# Altium schematic symbol library 集成块.SchLib: 33 symbols
Pins are listed as number, name and electrical type; pins without a type are passive.

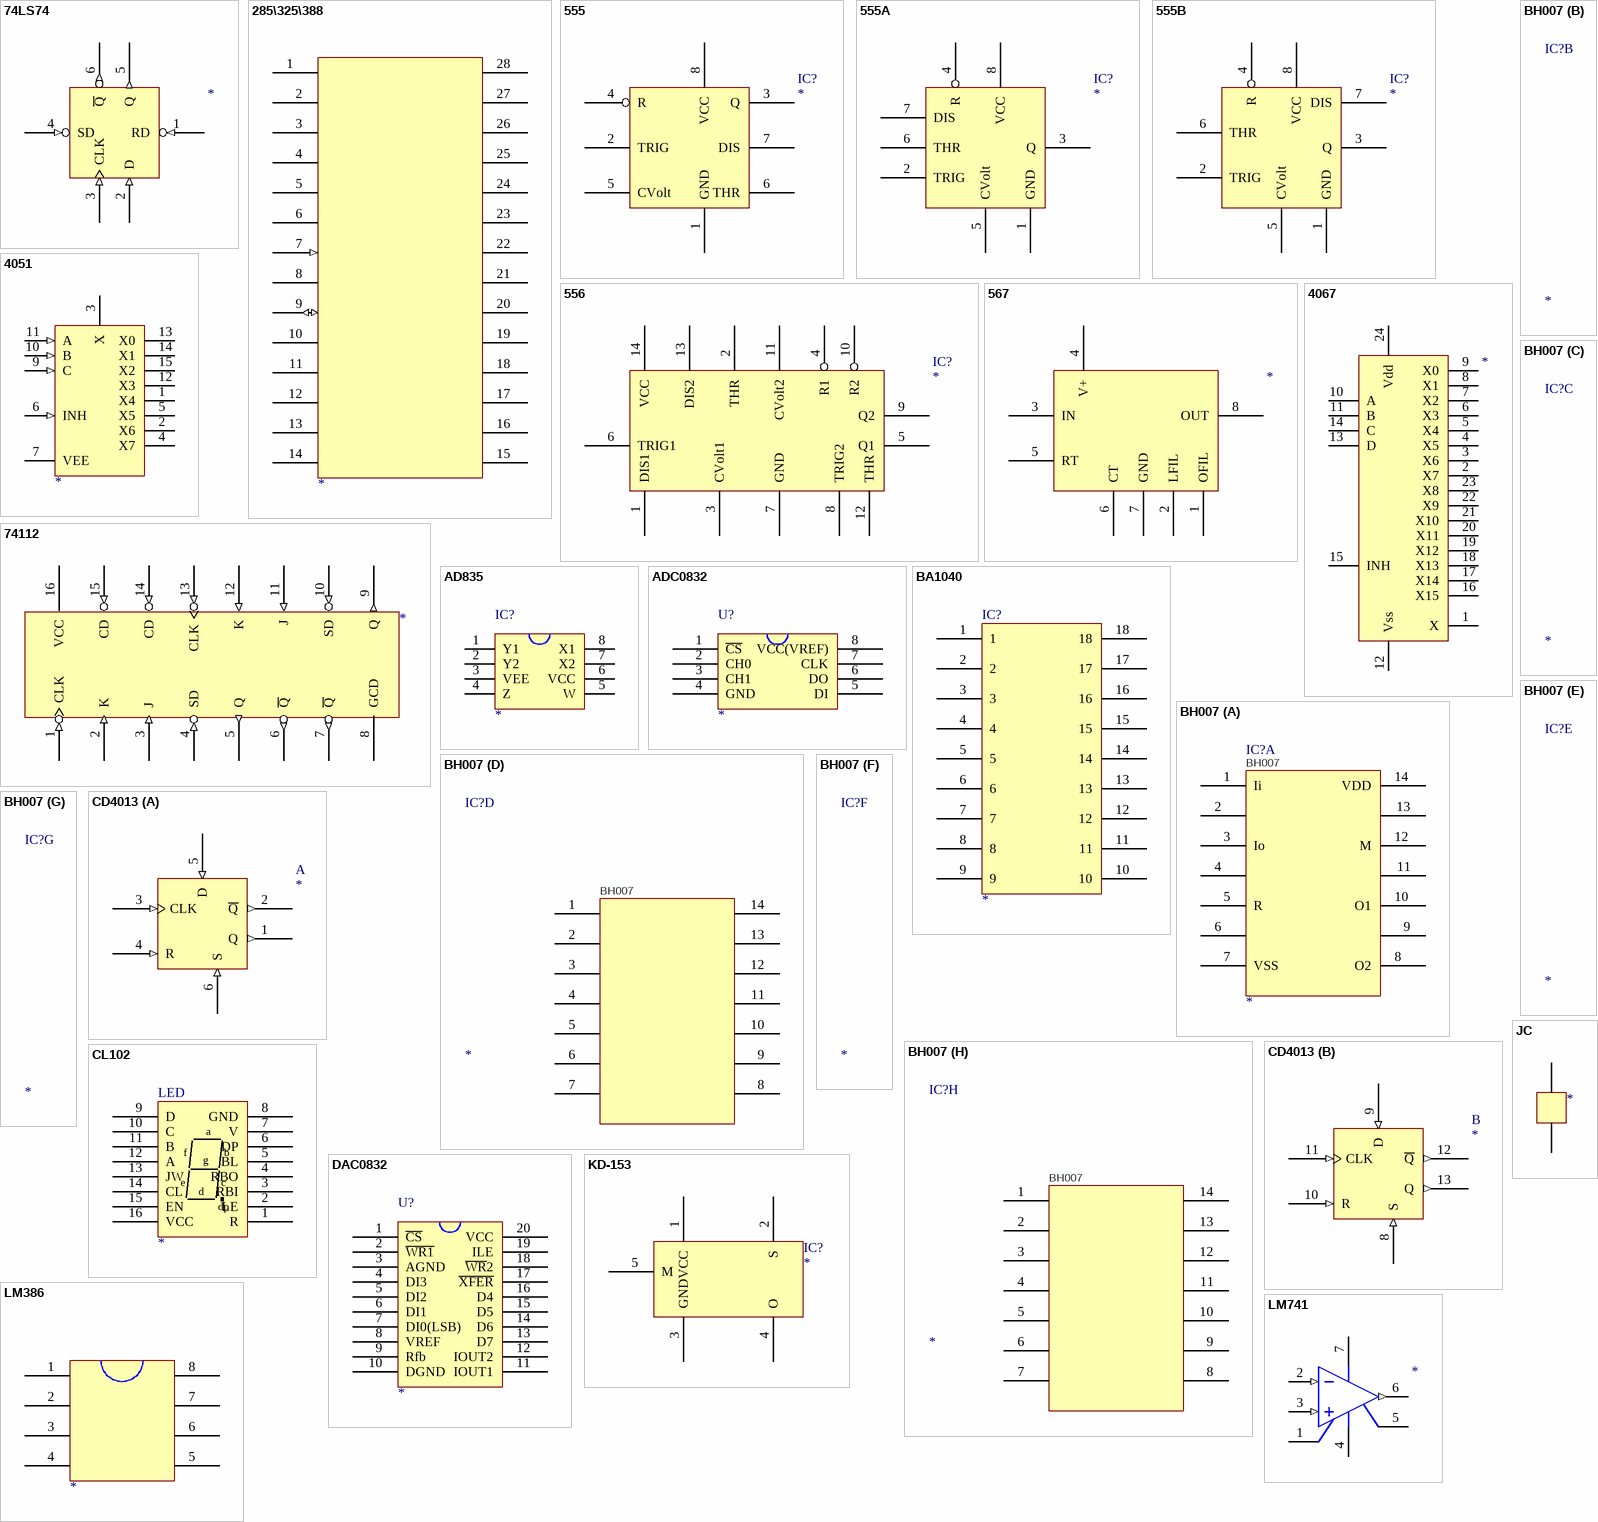
[diagram p0: symbols 74LS74 to LM741]

## 74LS74
designator ?
pins: 1 RD (in), 2 D (in), 3 CLK (in), 4 SD (in), 5 Q (out), 6 ~{Q} (out), 7 GND (power) hidden to GND, 14 VCC (power) hidden to VCC

## 285\325\388
designator ?
pins: 1, 2, 3, 4, 5, 6, 7 (in), 8, 9 (io), 10, 11, 12, 13, 14, 15, 16, 17, 18, 19, 20, 21, 22, 23, 24, 25, 26, 27, 28

## 555
designator IC?
footprint DIP-8
pins: 1 GND, 2 TRIG, 3 Q, 4 R, 5 CVolt, 6 THR, 7 DIS, 8 VCC

## 555A
designator IC?
footprint DIP-8
pins: 1 GND, 2 TRIG, 3 Q, 4 R, 5 CVolt, 6 THR, 7 DIS, 8 VCC

## 555B
designator IC?
footprint DIP-8
pins: 1 GND, 2 TRIG, 3 Q, 4 R, 5 CVolt, 6 THR, 7 DIS, 8 VCC

## 556
designator IC?
footprint DIP-14
pins: 1 DIS1, 2 THR, 3 CVolt1, 4 R1, 5 Q1, 6 TRIG1, 7 GND, 8 TRIG2, 9 Q2, 10 R2, 11 CVolt2, 12 THR, 13 DIS2, 14 VCC

## 567
designator ?
pins: 1 OFIL, 2 LFIL, 3 IN, 4 V+, 5 RT, 6 CT, 7 GND, 8 OUT

## 4051
designator ?
pins: 1 X4, 2 X6, 3 X, 4 X7, 5 X5, 6 INH (in), 7 VEE, 9 C (in), 10 B (in), 11 A (in), 12 X3, 13 X0, 14 X1, 15 X2

## 4067
designator ?
pins: 1 X, 2 X7, 3 X6, 4 X5, 5 X4, 6 X3, 7 X2, 8 X1, 9 X0, 10 A, 11 B, 12 Vss, 13 D, 14 C, 15 INH, 16 X15, 17 X14, 18 X13, 19 X12, 20 X11, 21 X10, 22 X9, 23 X8, 24 Vdd

## 74112
designator ?
pins: 1 CLK (in), 2 K (in), 3 J (in), 4 SD (in), 5 Q (out), 6 ~{Q} (out), 7 ~{Q} (out), 8 GND (power) hidden to GND, 8 GND (power) hidden to GND, 8 GCD, 9 Q (out), 10 SD (in), 11 J (in), 12 K (in), 13 CLK (in), 14 CD (in), 15 CD (in), 16 VCC (power) hidden to VCC, 16 VCC (power) hidden to VCC, 16 VCC

## AD835
designator IC?
footprint DIP-8
pins: 1 Y1, 2 Y2, 3 VEE, 4 Z, 5 W, 6 VCC, 7 X2, 8 X1

## ADC0832
designator U?
footprint DIP-8
footprint DIP8
pins: 1 ~{CS}, 2 CH0, 3 CH1, 4 GND, 5 DI, 6 DO, 7 CLK, 8 VCC(VREF)

## BA1040
designator IC?
footprint DIP-18
pins: 1, 2, 3, 4, 5, 6, 7, 8, 9, 10, 11, 12, 13, 14, 15, 16, 17, 18

## BH007
designator IC?
footprint DIP-14
part A pins: 1 Ii, 2, 3 Io, 4, 5 R, 6, 7 VSS, 8 O2, 9, 10 O1, 11, 12 M, 13, 14 VDD
part D pins: 1, 2, 3, 4, 5, 6, 7, 8, 9, 10, 11, 12, 13, 14
part H pins: 1, 2, 3, 4, 5, 6, 7, 8, 9, 10, 11, 12, 13, 14

## CD4013
designator ?
part A pins: 1 Q (out), 2 ~{Q} (out), 3 CLK (in), 4 R (in), 5 D (in), 6 S (in), 7 GND (power) hidden to GND, 14 VCC (power) hidden to VCC
part B pins: 8 S (in), 9 D (in), 10 R (in), 11 CLK (in), 12 ~{Q} (out), 13 Q (out)

## CL102
designator LED
footprint DIP-16
pins: 1 R, 2 LE, 3 RBI, 4 RBO, 5 BL, 6 DP, 7 V, 8 GND, 9 D, 10 C, 11 B, 12 A, 13 JW, 14 CL, 15 EN, 16 VCC
text: a; f; b; g; e; c; d; dp

## DAC0832
designator U?
footprint DIP-20
footprint DIP20
pins: 1 ~{CS}, 2 ~{WR1}, 3 AGND, 4 DI3, 5 DI2, 6 DI1, 7 DI0(LSB), 8 VREF, 9 Rfb, 10 DGND, 11 IOUT1, 12 IOUT2, 13 D7, 14 D6, 15 D5, 16 D4, 17 ~{XFER}, 18 ~{WR}2, 19 ILE, 20 VCC

## JC
designator ?
pins: 1, 2

## KD-153
designator IC?
footprint DIP-6
pins: 1 VCC, 2 S, 3 GND, 4 O, 5 M

## LM386
designator ?
footprint DIP-8
pins: 1, 2, 3, 4, 5, 6, 7, 8

## LM741
designator ?
footprint DIP-8
pins: 1 OS NULL-, 2 IN- (in), 3 IN+ (in), 4 VCC - (power), 5 OS NULL+, 6 OUT (out), 7 VCC+ (power)

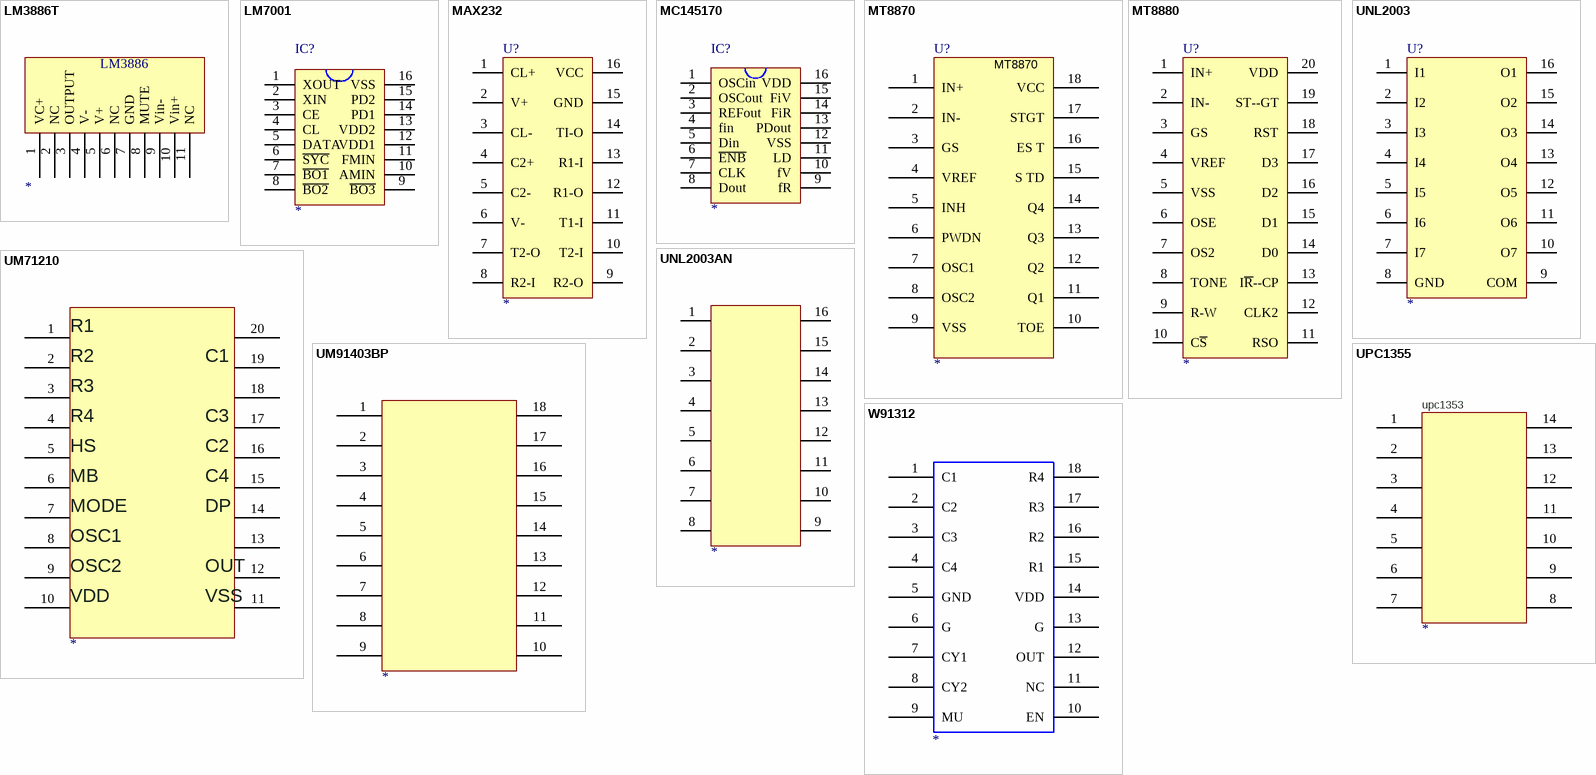
[diagram p1: symbols LM3886T to W91312]

## LM3886T
designator ?
pins: 1 VC+, 2 NC, 3 OUTPUT, 4 V-, 5 V+, 6 NC, 7 GND, 8 MUTE, 9 Vin-, 10 Vin+, 11 NC
text: LM3886

## LM7001
designator IC?
footprint DIP-16
pins: 1 XOUT, 2 XIN, 3 CE, 4 CL, 5 DATA, 6 ~{SYC}, 7 ~{BO1}, 8 ~{BO2}, 9 ~{BO3}, 10 AMIN, 11 FMIN, 12 VDD1, 13 VDD2, 14 PD1, 15 PD2, 16 VSS

## MAX232
designator U?
footprint DIP-16
pins: 1 CL+, 2 V+, 3 CL-, 4 C2+, 5 C2-, 6 V-, 7 T2-O, 8 R2-I, 9 R2-O, 10 T2-I, 11 T1-I, 12 R1-O, 13 R1-I, 14 TI-O, 15 GND, 16 VCC

## MC145170
designator IC?
footprint DIP-16
pins: 1 OSCin, 2 OSCout, 3 REFout, 4 fin, 5 Din, 6 ~{ENB}, 7 CLK, 8 Dout, 9 fR, 10 fV, 11 LD, 12 VSS, 13 PDout, 14 FiR, 15 FiV, 16 VDD

## MT8870
designator U?
footprint DIP18
pins: 1 IN+, 2 IN-, 3 GS, 4 VREF, 5 INH, 6 PWDN, 7 OSC1, 8 OSC2, 9 VSS, 10 TOE, 11 Q1, 12 Q2, 13 Q3, 14 Q4, 15 S TD, 16 ES T, 17 STGT, 18 VCC

## MT8880
designator U?
footprint DIP20
pins: 1 IN+, 2 IN-, 3 GS, 4 VREF, 5 VSS, 6 OSE, 7 OS2, 8 TONE, 9 R-W, 10 C~{S}, 11 RSO, 12 CLK2, 13 I~{R}--CP, 14 D0, 15 D1, 16 D2, 17 D3, 18 RST, 19 ST--GT, 20 VDD

## UM71210
designator ?
pins: 1, 2, 3, 4, 5, 6, 7, 8, 9, 10, 11, 12, 13, 14, 15, 16, 17, 18, 19, 20
text: R1; R2; C1; R3; R4; C3; HS; C2; MB; C4; MODE; DP; OSC1; OSC2; OUT; VDD; VSS

## UM91403BP
designator ?
footprint DIP-18
pins: 1, 2, 3, 4, 5, 6, 7, 8, 9, 10, 11, 12, 13, 14, 15, 16, 17, 18

## UNL2003
designator U?
footprint DIP-16
pins: 1 I1, 2 I2, 3 I3, 4 I4, 5 I5, 6 I6, 7 I7, 8 GND, 9 COM, 10 O7, 11 O6, 12 O5, 13 O4, 14 O3, 15 O2, 16 O1

## UNL2003AN
designator ?
pins: 1, 2, 3, 4, 5, 6, 7, 8, 9, 10, 11, 12, 13, 14, 15, 16

## UPC1355
designator ?
footprint DIP-14
pins: 1, 2, 3, 4, 5, 6, 7, 8, 9, 10, 11, 12, 13, 14
text: upc1353

## W91312
designator ?
pins: 1 C1, 2 C2, 3 C3, 4 C4, 5 GND, 6 G, 7 CY1, 8 CY2, 9 MU, 10 EN, 11 NC, 12 OUT, 13 G, 14 VDD, 15 R1, 16 R2, 17 R3, 18 R4